# EAGLE library part MSP430G2553_SSOP28 (library SE423EagleLibrary)
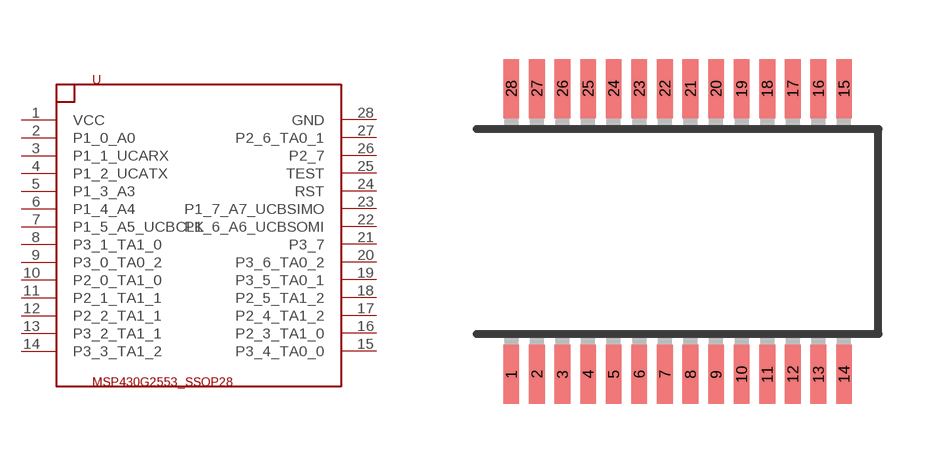
[diagram p9: symbol with the pads of SSOP28; footprint SSOP28]

Designator prefix U

## MSP430G2553_SSOP28  [SSOP28]
1  VCC
2  P1_0_A0
3  P1_1_UCARX
4  P1_2_UCATX
5  P1_3_A3
6  P1_4_A4
7  P1_5_A5_UCBCLK
8  P3_1_TA1_0
9  P3_0_TA0_2
10  P2_0_TA1_0
11  P2_1_TA1_1
12  P2_2_TA1_1
13  P3_2_TA1_1
14  P3_3_TA1_2
15  P3_4_TA0_0
16  P2_3_TA1_0
17  P2_4_TA1_2
18  P2_5_TA1_2
19  P3_5_TA0_1
20  P3_6_TA0_2
21  P3_7
22  P1_6_A6_UCBSOMI
23  P1_7_A7_UCBSIMO
24  RST
25  TEST
26  P2_7
27  P2_6_TA0_1
28  GND

## Footprint SSOP28 (pad centres in mm)
Shrink Small Outline Package package type SS
smd 0.4 x 1.5: 1 -4.225,-3.625; 2 -3.575,-3.625; 3 -2.925,-3.625; 4 -2.275,-3.625; 5 -1.625,-3.625; 6 -0.975,-3.625; 7 -0.325,-3.625; 8 0.325,-3.625; 9 0.975,-3.625; 10 1.625,-3.625; 11 2.275,-3.625; 12 2.925,-3.625; 13 3.575,-3.625; 14 4.225,-3.625; 15 4.225,3.625; 16 3.575,3.625; 17 2.925,3.625; 18 2.275,3.625; 19 1.625,3.625; 20 0.975,3.625; 21 0.325,3.625; 22 -0.325,3.625; 23 -0.975,3.625; 24 -1.625,3.625; 25 -2.275,3.625; 26 -2.925,3.625; 27 -3.575,3.625; 28 -4.225,3.625